# Altium schematic symbol library SamacSys.SchLib: 6 symbols
Pins are listed as number, name and electrical type; pins without a type are passive.

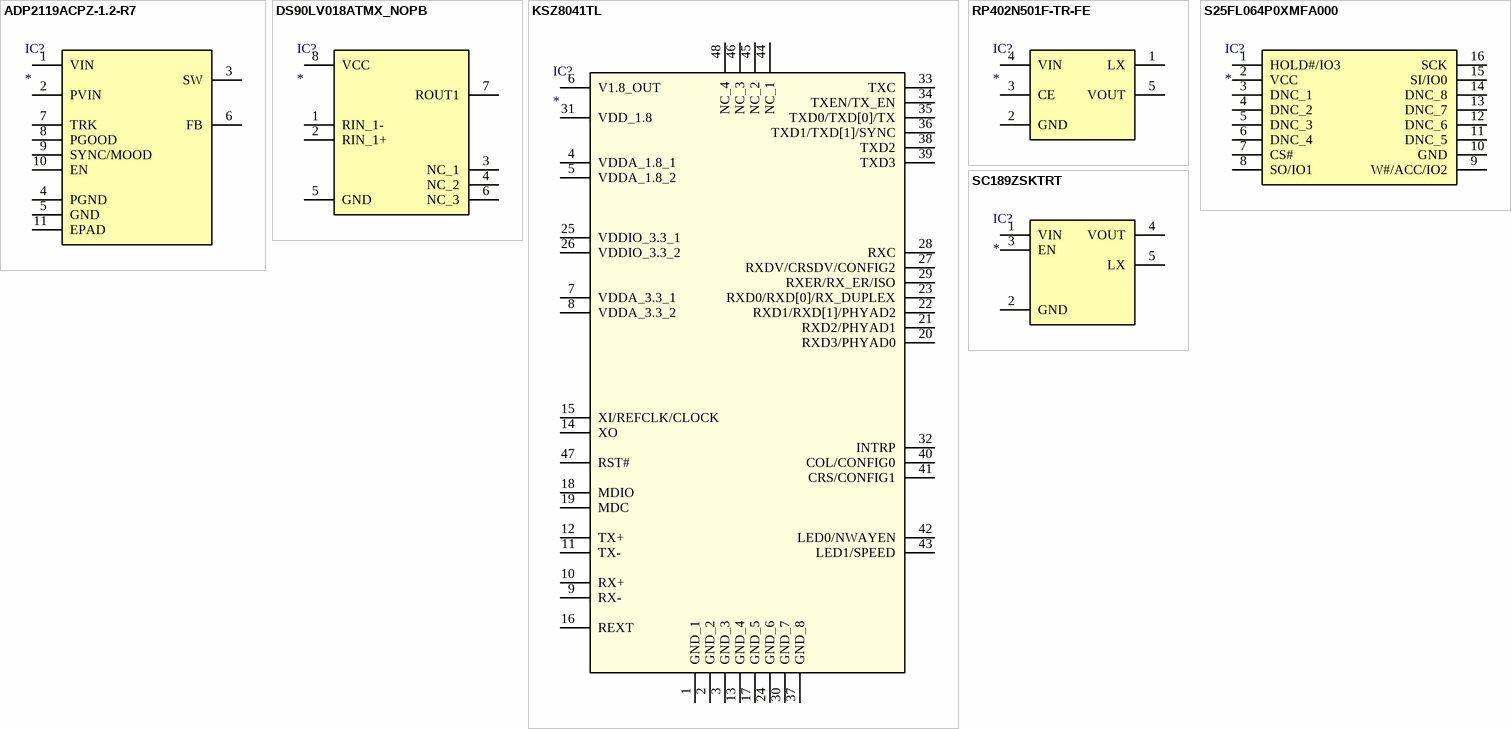
[diagram p0: symbols ADP2119ACPZ-1.2-R7 to SC189ZSKTRT]

## ADP2119ACPZ-1.2-R7
designator IC?
Integrated Circuit; Manufacturer_Name: Analog Devices; Manufacturer_Part_Number: ADP2119ACPZ-1.2-R7; Mouser Part Number: 584-ADP2119ACPZ1.2R7; Mouser Price/Stock: https://www.mouser.co.uk/ProductDetail/Analog-Devices/ADP2119ACPZ-12-R7?qs=WIvQP4zGanjkVnaXN%2F8Aww%3D%3D; Arrow Part Number: ADP2119ACPZ-1.2-R7; Arrow Price/Stock: https://www.arrow.com/en/products/adp2119acpz-1.2-r7/analog-devices
footprint SON50P300X300X85-11N
pins: 1 VIN, 2 PVIN, 3 SW, 4 PGND, 5 GND, 6 FB, 7 TRK, 8 PGOOD, 9 SYNC/MOOD, 10 EN, 11 EPAD

## DS90LV018ATMX_NOPB
designator IC?
Integrated Circuit; Manufacturer_Name: Texas Instruments; Manufacturer_Part_Number: DS90LV018ATMX/NOPB; Datasheet Link: http://www.ti.com/lit/gpn/ds90lv018a; Height: 1.75mm; Mouser Part Number: 926-DS90LV018ATMXNPB; Mouser Price/Stock: https://www.mouser.co.uk/ProductDetail/Texas-Instruments/DS90LV018ATMX-NOPB?qs=X1J7HmVL2ZGhGuL83KQT5g%3D%3D; Arrow Part Number: DS90LV018ATMX/NOPB; Arrow Price/Stock: https://www.arrow.com/en/products/ds90lv018atmxnopb/texas-instruments
footprint SOIC127P600X175-8N
pins: 1 RIN_1-, 2 RIN_1+, 3 NC_1, 4 NC_2, 5 GND, 6 NC_3, 7 ROUT1, 8 VCC

## KSZ8041TL
designator IC?
Integrated Circuit; Manufacturer_Name: Microchip; Manufacturer_Part_Number: KSZ8041TL; Datasheet Link: http://www.microchip.com/mymicrochip/filehandler.aspx?ddocname=en581559; Height: 1.05mm; Mouser Part Number: 998-KSZ8041TL; Mouser Price/Stock: https://www.mouser.co.uk/ProductDetail/Microchip-Technology-Micrel/KSZ8041TL?qs=kh6iOki%2FeLG3fBvp35yNQw%3D%3D; Arrow Part Number: KSZ8041TL; Arrow Price/Stock: https://www.arrow.com/en/products/ksz8041tl/microchip-technology
footprint QFP50P900X900X105-48N
pins: 1 GND_1, 2 GND_2, 3 GND_3, 4 VDDA_1.8_1, 5 VDDA_1.8_2, 6 V1.8_OUT, 7 VDDA_3.3_1, 8 VDDA_3.3_2, 9 RX-, 10 RX+, 11 TX-, 12 TX+, 13 GND_4, 14 XO, 15 XI/REFCLK/CLOCK, 16 REXT, 17 GND_5, 18 MDIO, 19 MDC, 20 RXD3/PHYAD0, 21 RXD2/PHYAD1, 22 RXD1/RXD[1]/PHYAD2, 23 RXD0/RXD[0]/RX_DUPLEX, 24 GND_6, 25 VDDIO_3.3_1, 26 VDDIO_3.3_2, 27 RXDV/CRSDV/CONFIG2, 28 RXC, 29 RXER/RX_ER/ISO, 30 GND_7, 31 VDD_1.8, 32 INTRP, 33 TXC, 34 TXEN/TX_EN, 35 TXD0/TXD[0]/TX, 36 TXD1/TXD[1]/SYNC, 37 GND_8, 38 TXD2, 39 TXD3, 40 COL/CONFIG0, 41 CRS/CONFIG1, 42 LED0/NWAYEN, 43 LED1/SPEED, 44 NC_1, 45 NC_2, 46 NC_3, 47 RST#, 48 NC_4

## RP402N501F-TR-FE
designator IC?
Integrated Circuit; Manufacturer_Name: Ricoh; Manufacturer_Part_Number: RP402N501F-TR-FE; Datasheet Link: https://www.arrow.com/en/products/rp402n501f-tr-fe/ricoh-electronic-devices-company; Height: 1.3mm; Mouser Part Number: 848-RP402N501F-TR-FE; Mouser Price/Stock: https://www.mouser.co.uk/ProductDetail/Ricoh-Electronic-Devices-Company/RP402N501F-TR-FE?qs=ilL34mSzaLj3p4B9FaWLxQ%3D%3D; Arrow Part Number: RP402N501F-TR-FE; Arrow Price/Stock: https://www.arrow.com/en/products/rp402n501f-tr-fe/ricoh-electronic-devices-company
footprint SOT95P280X130-5N
pins: 1 LX, 2 GND, 3 CE, 4 VIN, 5 VOUT

## S25FL064P0XMFA000
designator IC?
Integrated Circuit; Manufacturer_Name: Cypress Semiconductor; Manufacturer_Part_Number: S25FL064P0XMFA000; Datasheet Link: https://www.cypress.com/file/196856/download; Height: 2.65mm; Mouser Part Number: 727-S25FL064P0XMFA00; Mouser Price/Stock: https://www.mouser.co.uk/ProductDetail/Cypress-Semiconductor/S25FL064P0XMFA000?qs=oeTp6q%252Bm7GOWFbkeKvUJ6w%3D%3D; Arrow Part Number: S25FL064P0XMFA000; Arrow Price/Stock: https://www.arrow.com/en/products/s25fl064p0xmfa000/cypress-semiconductor
footprint SOIC127P1030X265-16N
pins: 1 HOLD#/IO3, 2 VCC, 3 DNC_1, 4 DNC_2, 5 DNC_3, 6 DNC_4, 7 CS#, 8 SO/IO1, 9 W#/ACC/IO2, 10 GND, 11 DNC_5, 12 DNC_6, 13 DNC_7, 14 DNC_8, 15 SI/IO0, 16 SCK

## SC189ZSKTRT
designator IC?
Integrated Circuit; Manufacturer_Name: SEMTECH; Manufacturer_Part_Number: SC189ZSKTRT; Datasheet Link: http://www.semtech.com/images/datasheet/sc189.pdf; Height: 1.45mm; Mouser Part Number: 947-SC189ZSKTRT; Mouser Price/Stock: https://www.mouser.co.uk/ProductDetail/Semtech/SC189ZSKTRT/?qs=rBWM4%252BvDhIck0D%2FgoUNMIQ%3D%3D; Arrow Part Number: SC189ZSKTRT; Arrow Price/Stock: https://www.arrow.com/en/products/sc189zsktrt/semtech
footprint SOT95P280X145-5N
pins: 1 VIN, 2 GND, 3 EN, 4 VOUT, 5 LX